# Altium footprint library kemet_ms_10x12.PcbLib: 1 footprints
Each footprint in its own frame and in the unit in brackets; x right, y up, seen from the top. Pads: shape width x height; smd on the part's side, far side on the other; paste and mask are expansions set on the pad; w line width, h text height; cw(c..) or ccw(c..) is an arc to the next point about the centre after c.
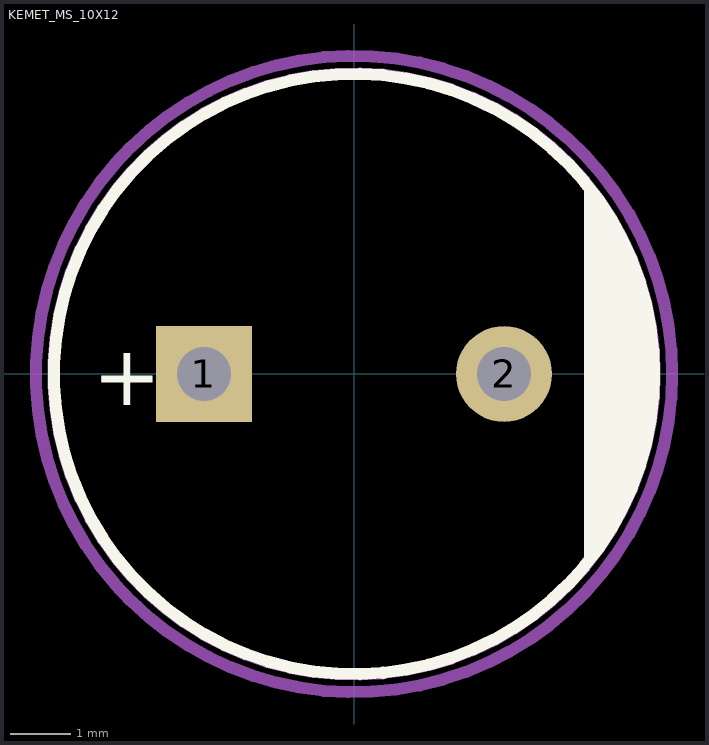
[diagram p0: the footprint, top view; thin cyan lines are the x and y axes]

## KEMET_MS_10X12 [mm]
height 13
pads (2):
  rect 1.6x1.6 hole 0.9: 1(-2.5,0)
  round 1.6 hole 0.9: 2(2.5,0)
Top Overlay:
  circle w0.2: c0,0 r5
  region: 3.837,-3.22 3.837,3.22 4.025,2.996 4.345,2.509 4.607,1.987 4.807,1.439 4.941,0.871 5.009,0.292 5.009,-0.292 4.941,-0.871 4.807,-1.439 4.607,-1.987 4.345,-2.509 4.025,-2.996
  text "+" at -4.35,-0.517 h1
Bottom Overlay:
  text "+" at -4.35,-0.517 h1
Top 3D Body:
  circle w0.2: c0,0 r5.009
Top Courtyard:
  circle w0.2: c0,0 r5.3
Top Designator:
  text ".Designator" at -1.38,-0.18 h0.6
3D body "A759MS156M2CAAE094.step": height 13.02, standoff -18.99, extent -5.245,-5.25 5.245,5.25